# EAGLE library part RJ45 (library MRDT-2014-All)
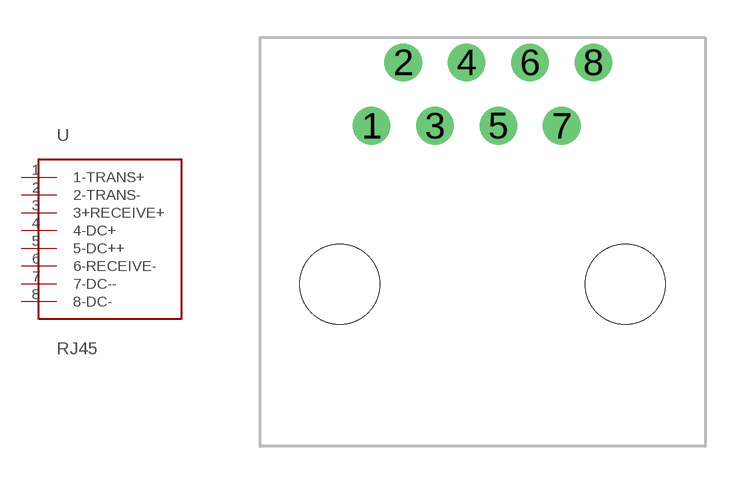
[diagram p0: symbol with the pads of RJ45-CAT5E; footprint RJ45-CAT5E]

Designator prefix -

## RJ45  [RJ45-CAT5E]
1  1-TRANS+
2  2-TRANS-
3  3+RECEIVE+
4  4-DC+
5  5-DC++
6  6-RECEIVE-
7  7-DC--
8  8-DC-

## Footprint RJ45-CAT5E (pad centres in mm)
drill 1: 1 -4.445,4.655; 2 -3.175,7.195; 3 -1.905,4.655; 4 -0.635,7.195; 5 0.635,4.655; 6 1.905,7.195; 7 3.175,4.655; 8 4.445,7.195
hole 3.2 at 5.715,-1.695
hole 3.2 at -5.715,-1.695